# Altium footprint library PCB - Leaded - SOD- SOD2513X120N.PCBLIB: 1 footprints
Each footprint in its own frame and in the unit in brackets; x right, y up, seen from the top. Pads: shape width x height; smd on the part's side, far side on the other; paste and mask are expansions set on the pad; w line width, h text height; cw(c..) or ccw(c..) is an arc to the next point about the centre after c.
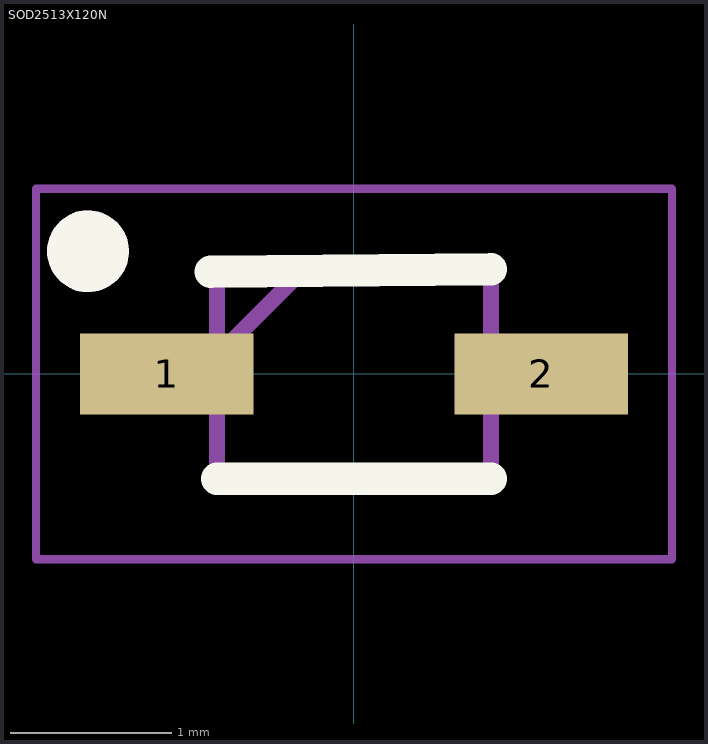
[diagram p0: the footprint, top view; thin cyan lines are the x and y axes]

## SOD2513X120N [mm]
pads (2):
  rect 1.075x0.5 smd: 1(-1.162,0) 2(1.162,0)
Top Overlay:
  circle w0.254: c-1.651,0.762 r0.127
  lines w0.2: -0.889,0.635 0.85,0.65 ; -0.85,-0.65 0.85,-0.65
Top Assembly:
  circle w0.254: c-1.651,0.762 r0.127
  lines w0.1: -0.85,0.112 -0.312,0.65 ; -0.85,-0.65 0.85,-0.65 0.85,0.65 -0.85,0.65 -0.85,-0.65
Top Courtyard:
  lines w0.05: -1.975,-1.15 1.975,-1.15 1.975,1.15 -1.975,1.15 -1.975,-1.15
Top Designator:
  text ".Designator" at -2.032,2.413 h1
Top Value (Mech13):
  text ".Comment" at -2.032,1.397 h1
3D body "BAT54WS-7-F.stp": height 1.2, standoff 0, extent -1.25,-0.65 1.25,0.65